# Altium footprint library crytal 32768.PcbLib: 1 footprints
Each footprint in its own frame and in the unit in brackets; x right, y up, seen from the top. Pads: shape width x height; smd on the part's side, far side on the other; paste and mask are expansions set on the pad; w line width, h text height; cw(c..) or ccw(c..) is an arc to the next point about the centre after c.
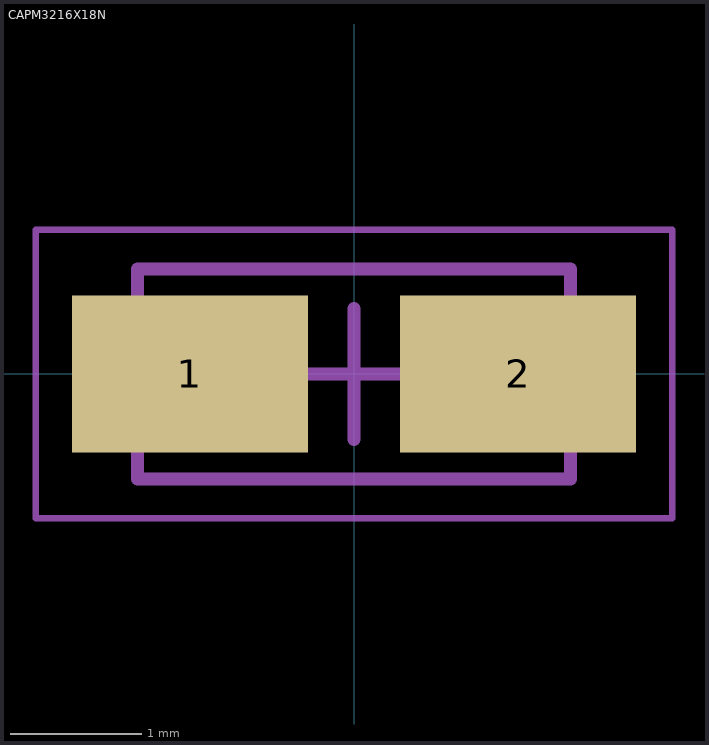
[diagram p0: the footprint, top view; thin cyan lines are the x and y axes]

## CAPM3216X18N [mm] "Molded Capacitor, 2-Leads, Body 3.25x1.55mm, IPC Medium Density"
height 1.8
pads (2):
  rect 1.8x1.2 smd: 1(-1.25,0) 2(1.25,0)
Mechanical 13:
  lines w0.1: -1.65,-0.8 1.65,-0.8 1.65,0.8 -1.65,0.8 -1.65,-0.8
Mechanical 15:
  lines w0.05: -2.425,-1.1 2.425,-1.1 2.425,1.1 -2.425,1.1 -2.425,-1.1
  lines w0.1: -0.5,0 0.5,0 ; 0,-0.5 0,0.5
3D body: height 0.8, standoff 0, extent -1.6,-0.75 1.6,0.75